# Altium footprint library 5HeaderPin.PcbLib: 1 footprints
Each footprint in its own frame and in the unit in brackets; x right, y up, seen from the top. Pads: shape width x height; smd on the part's side, far side on the other; paste and mask are expansions set on the pad; w line width, h text height; cw(c..) or ccw(c..) is an arc to the next point about the centre after c.
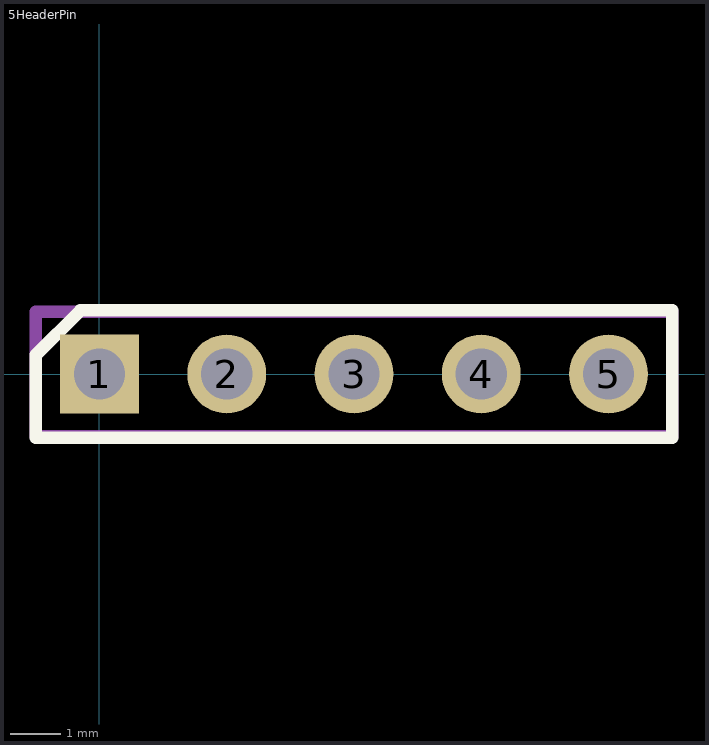
[diagram p0: the footprint, top view; thin cyan lines are the x and y axes]

## 5HeaderPin [mm]
pads (5):
  rect 1.575x1.575 hole 1.02: 1(0,0)
  round 1.575 hole 1.02: 2(2.54,0) 3(5.08,0) 4(7.62,0) 5(10.16,0)
Top Overlay:
  lines w0.254: -1.27,-1.27 11.43,-1.27 11.43,1.27 -0.38,1.27 -1.27,0.38 -1.27,-1.27
Top Assembly:
  lines w0.254: -1.27,-1.245 -1.27,1.245 11.43,1.245 11.43,-1.245 -1.27,-1.245 ; -0.33,-0.33 -0.33,0.33 0.33,0.33 0.33,-0.33 -0.33,-0.33
  text ".Designator" at -1.17,1.503 h0.4
3D body: height 17.78, standoff -3.1, extent -0.33,-0.33 10.56,0.33
3D body: height 2.29, standoff 0, extent -1.27,-1.245 11.43,1.245